# EAGLE library part 61901011021 (library Wurth_Elektronik_Electromechanic_Wire_to_Board_Connectors_rev15c)
WR-WTB 2.54mm Right Angled Locking Header Bottom Locking, 10 Pins=>Code : Con_WTB_2.54_PCB_THT_61901011021 <http://katalog.we-online.de/media/thumbs2/eican/thb_Con_WTB_2.54_PCB_THT_6190xx11021_pf2.jpg> Details see: http://katalog.we-online.de/en/em/619_0xx_110_21 Created 2014-06-05, Karrer Zheng 2014 (C) Würth Elektronik
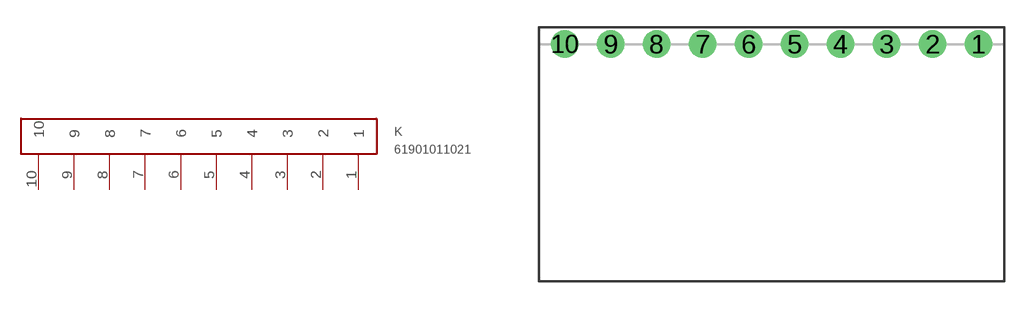
[diagram p10: symbol with the pads of 61901011021; footprint 61901011021]

Designator prefix K

## 61901011021  [61901011021]
1  1
2  2
3  3
4  4
5  5
6  6
7  7
8  8
9  9
10  10

## Footprint 61901011021 (pad centres in mm)
WR-WTB 2.54mm Right Angled Locking Header Bottom Locking, 10 Pins
drill 1: 1 1.27,0; 2 -1.27,0; 3 -3.81,0; 4 -6.35,0; 5 -8.89,0; 6 -11.43,0; 7 -13.97,0; 8 -16.51,0; 9 -19.05,0; 10 -21.59,0